# Altium schematic symbol library Transistors.SchLib: 8 symbols
Pins are listed as number, name and electrical type; pins without a type are passive.

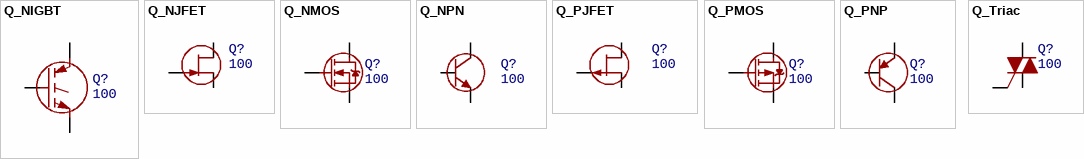
[diagram p0: symbols Q_NIGBT to Q_Triac]

## Q_NIGBT
designator Q?, comment 100
IGBT; Value: 100; Manufacture: *; PartNo: *; Package: =Footprint; HelpURL: *
pins: 1 G, 2 C, 3 E

## Q_NJFET
designator Q?, comment 100
JFET N-channel; Value: 100; Manufacture: *; PartNo: *; Package: =Footprint; HelpURL: *
pins: 1 D, 2 G, 3 S

## Q_NMOS
designator Q?, comment 100
MOSFET N-channel; Value: 100; Manufacture: *; PartNo: *; Package: =Footprint; HelpURL: *
pins: 1 D, 2 G, 3 S

## Q_NPN
designator Q?, comment 100
NPN Transistor; Value: 100; Manufacture: *; PartNo: *; Package: =Footprint; HelpURL: *
pins: 1 C, 2 B, 3 E

## Q_PJFET
designator Q?, comment 100
JFET P-channel; Value: 100; Manufacture: *; PartNo: *; Package: =Footprint; HelpURL: *
pins: 1 D, 2 G, 3 S

## Q_PMOS
designator Q?, comment 100
MOSFET P-channel; Value: 100; Manufacture: *; PartNo: *; Package: =Footprint; HelpURL: *
pins: 1 D, 2 G, 3 S

## Q_PNP
designator Q?, comment 100
PNP Transistor; Value: 100; Manufacture: *; PartNo: *; Package: =Footprint; HelpURL: *
pins: 1 C, 2 B, 3 E

## Q_Triac
designator Q?, comment 100
Triac; Value: 100; Manufacture: *; PartNo: *; Package: =Footprint; HelpURL: *
pins: 1 A1, 2 A2, 3 G